# Altium footprint library Microchip SST Flash.PcbLib: 35 footprints (part 3 of 3)
Each footprint in its own frame and in the unit in brackets; x right, y up, seen from the top. Pads: shape width x height; smd on the part's side, far side on the other; paste and mask are expansions set on the pad; w line width, h text height; cw(c..) or ccw(c..) is an arc to the next point about the centre after c.
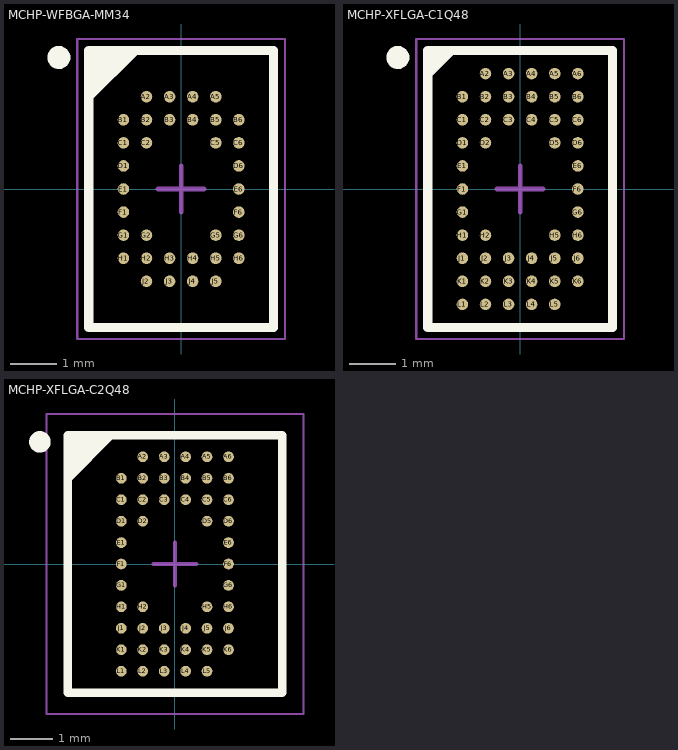
[diagram p2: the footprints below, top view; thin cyan lines are the x and y axes]

## MCHP-WFBGA-MM34 [mm] "BGA, 34-Balls, Body 6x4mm, Pitch 0.5mm"
height 0.73
pads (34):
  round 0.25 smd: A2(-0.75,2) A3(-0.25,2) A4(0.25,2) A5(0.75,2) B1(-1.25,1.5) B2(-0.75,1.5) B3(-0.25,1.5) B4(0.25,1.5) B5(0.75,1.5) B6(1.25,1.5) C1(-1.25,1) C2(-0.75,1) C5(0.75,1) C6(1.25,1) D1(-1.25,0.5) D6(1.25,0.5) E1(-1.25,0) E6(1.25,0) F1(-1.25,-0.5) F6(1.25,-0.5) G1(-1.25,-1) G2(-0.75,-1) G5(0.75,-1) G6(1.25,-1) H1(-1.25,-1.5) H2(-0.75,-1.5) H3(-0.25,-1.5) H4(0.25,-1.5) H5(0.75,-1.5) H6(1.25,-1.5) J2(-0.75,-2) J3(-0.25,-2) J4(0.25,-2) J5(0.75,-2)
Top Overlay:
  circle w0.25: c-2.65,2.85 r0.125
  region: -1,3 -2,2 -2,3
  lines w0.2: -2,2 -1,3 ; -2,-3 2,-3 2,3 -2,3 -2,-3
Mechanical 13:
  lines w0.1: -2,-3 2,-3 2,3 -2,3 -2,-3
Mechanical 15:
  lines w0.05: -2.25,-3.25 2.25,-3.25 2.25,3.25 -2.25,3.25 -2.25,-3.25
  lines w0.1: -0.5,0 0.5,0 ; 0,-0.5 0,0.5
3D body: height 0.73, standoff 0.14, extent -2,-3 2,3

## MCHP-XFLGA-C1Q48 [mm] "BGA, 48-Balls, Body 6x4mm, Pitch 0.5mm"
height 0.52
pads (48):
  round 0.25 smd: A2(-0.75,2.5) A3(-0.25,2.5) A4(0.25,2.5) A5(0.75,2.5) A6(1.25,2.5) B1(-1.25,2) B2(-0.75,2) B3(-0.25,2) B4(0.25,2) B5(0.75,2) B6(1.25,2) C1(-1.25,1.5) C2(-0.75,1.5) C3(-0.25,1.5) C4(0.25,1.5) C5(0.75,1.5) C6(1.25,1.5) D1(-1.25,1) D2(-0.75,1) D5(0.75,1) D6(1.25,1) E1(-1.25,0.5) E6(1.25,0.5) F1(-1.25,0) F6(1.25,0) G1(-1.25,-0.5) G6(1.25,-0.5) H1(-1.25,-1) H2(-0.75,-1) H5(0.75,-1) H6(1.25,-1) J1(-1.25,-1.5) J2(-0.75,-1.5) J3(-0.25,-1.5) J4(0.25,-1.5) J5(0.75,-1.5) J6(1.25,-1.5) K1(-1.25,-2) K2(-0.75,-2) K3(-0.25,-2) K4(0.25,-2) K5(0.75,-2) K6(1.25,-2) L1(-1.25,-2.5) L2(-0.75,-2.5) L3(-0.25,-2.5) L4(0.25,-2.5) L5(0.75,-2.5)
Top Overlay:
  circle w0.25: c-2.65,2.85 r0.125
  region: -1.492,3 -2,2.492 -2,3
  lines w0.2: -2,2.492 -1.492,3 ; -2,-3 -2,3 2,3 2,-3 -2,-3
Mechanical 13:
  lines w0.1: -2,-3 -2,3 2,3 2,-3 -2,-3
Mechanical 15:
  lines w0.05: -2.25,-3.25 -2.25,3.25 2.25,3.25 2.25,-3.25 -2.25,-3.25
  lines w0.1: -0.5,0 0.5,0 ; 0,-0.5 0,0.5
3D body: height 0.52, standoff 0.03, extent -2,-3 2,3

## MCHP-XFLGA-C2Q48 [mm] "BGA, 48-Balls, Body 6x5mm, Pitch 0.5mm"
height 0.52
pads (48):
  round 0.25 smd: A2(-0.75,2.5) A3(-0.25,2.5) A4(0.25,2.5) A5(0.75,2.5) A6(1.25,2.5) B1(-1.25,2) B2(-0.75,2) B3(-0.25,2) B4(0.25,2) B5(0.75,2) B6(1.25,2) C1(-1.25,1.5) C2(-0.75,1.5) C3(-0.25,1.5) C4(0.25,1.5) C5(0.75,1.5) C6(1.25,1.5) D1(-1.25,1) D2(-0.75,1) D5(0.75,1) D6(1.25,1) E1(-1.25,0.5) E6(1.25,0.5) F1(-1.25,0) F6(1.25,0) G1(-1.25,-0.5) G6(1.25,-0.5) H1(-1.25,-1) H2(-0.75,-1) H5(0.75,-1) H6(1.25,-1) J1(-1.25,-1.5) J2(-0.75,-1.5) J3(-0.25,-1.5) J4(0.25,-1.5) J5(0.75,-1.5) J6(1.25,-1.5) K1(-1.25,-2) K2(-0.75,-2) K3(-0.25,-2) K4(0.25,-2) K5(0.75,-2) K6(1.25,-2) L1(-1.25,-2.5) L2(-0.75,-2.5) L3(-0.25,-2.5) L4(0.25,-2.5) L5(0.75,-2.5)
Top Overlay:
  circle w0.25: c-3.15,2.85 r0.125
  region: -1.5,3 -2.5,2 -2.5,3
  lines w0.2: -2.5,2 -1.5,3 ; -2.5,-3 -2.5,3 2.5,3 2.5,-3 -2.5,-3
Mechanical 13:
  lines w0.1: -2.5,-3 -2.5,3 2.5,3 2.5,-3 -2.5,-3
Mechanical 15:
  lines w0.05: -3,-3.5 -3,3.5 3,3.5 3,-3.5 -3,-3.5
  lines w0.1: -0.5,0 0.5,0 ; 0,-0.5 0,0.5
3D body: height 0.52, standoff 0.03, extent -2.5,-3 2.5,3